# EAGLE library part MT48LC8M16A2P-6A:L (library DLP_TI)
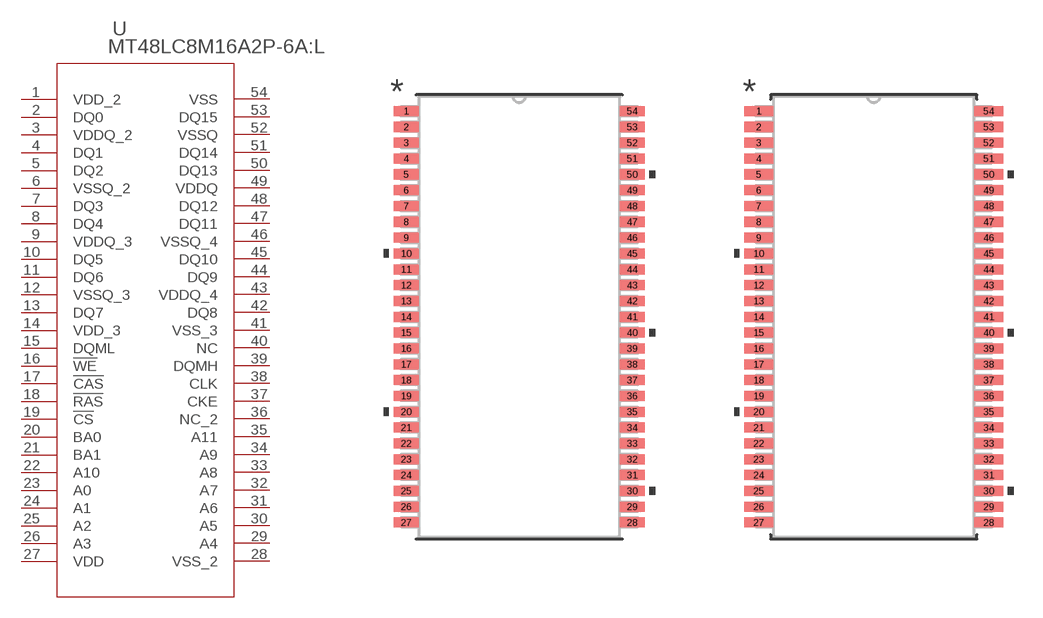
[diagram p3: symbol with the pads of TSOP54_11P76X22P22_MRN; footprints TSOP54_11P76X22P22_MRN, TSOP54_11P76X22P22_MRN-M]

Designator prefix U

## MT48LC8M16A2P-6A:L (COPYRIGHT: Copyright (C) 2021 Ultra Librarian. All rights reserved.; MANUFACTURER_PART_NUMBER: MT48LC8M16A2P-6A:L; MFR_NAME: Micron)  [TSOP54_11P76X22P22_MRN]
1  VDD_2  pwr
2  DQ0
3  VDDQ_2  pwr
4  DQ1
5  DQ2
6  VSSQ_2  pas
7  DQ3
8  DQ4
9  VDDQ_3  pwr
10  DQ5
11  DQ6
12  VSSQ_3  pas
13  DQ7
14  VDD_3  pwr
15  DQML  pas
16  !WE  pas
17  !CAS  pas
18  !RAS  pas
19  !CS  pas
20  BA0
21  BA1
22  A10
23  A0
24  A1
25  A2
26  A3
27  VDD  pwr
28  VSS_2  pas
29  A4
30  A5
31  A6
32  A7
33  A8
34  A9
35  A11
36  NC_2  nc
37  CKE  pas
38  CLK  pas
39  DQMH  pas
40  NC  nc
41  VSS_3  pas
42  DQ8
43  VDDQ_4  pwr
44  DQ9
45  DQ10
46  VSSQ_4  pas
47  DQ11
48  DQ12
49  VDDQ  pwr
50  DQ13
51  DQ14
52  VSSQ  pas
53  DQ15
54  VSS  pas

## MT48LC8M16A2P-6A:LTSOP54_11P76X22P22_MRN-M (COPYRIGHT: Copyright (C) 2021 Ultra Librarian. All rights reserved.; MANUFACTURER_PART_NUMBER: MT48LC8M16A2P-6A:L; MFR_NAME: Micron)  [TSOP54_11P76X22P22_MRN-M]
Pads as for TSOP54_11P76X22P22_MRN

## MT48LC8M16A2P-6A:LTSOP54_11P76X22P22_MRN-L (COPYRIGHT: Copyright (C) 2021 Ultra Librarian. All rights reserved.; MANUFACTURER_PART_NUMBER: MT48LC8M16A2P-6A:L; MFR_NAME: Micron)  [TSOP54_11P76X22P22_MRN-L]
Pads as for TSOP54_11P76X22P22_MRN

## Footprint TSOP54_11P76X22P22_MRN (pad centres in mm)
smd 1.257 x 0.508: 1 -5.709,10.4; 2 -5.709,9.6; 3 -5.709,8.8; 4 -5.709,8; 5 -5.709,7.2; 6 -5.709,6.4; 7 -5.709,5.6; 8 -5.709,4.8; 9 -5.709,4; 10 -5.709,3.2; 11 -5.709,2.4; 12 -5.709,1.6; 13 -5.709,0.8; 14 -5.709,0; 15 -5.709,-0.8; 16 -5.709,-1.6; 17 -5.709,-2.4; 18 -5.709,-3.2; 19 -5.709,-4; 20 -5.709,-4.8; 21 -5.709,-5.6; 22 -5.709,-6.4; 23 -5.709,-7.2; 24 -5.709,-8; 25 -5.709,-8.8; 26 -5.709,-9.6; 27 -5.709,-10.4; 28 5.709,-10.4; 29 5.709,-9.6; 30 5.709,-8.8; 31 5.709,-8; 32 5.709,-7.2; 33 5.709,-6.4; 34 5.709,-5.6; 35 5.709,-4.8; 36 5.709,-4; 37 5.709,-3.2; 38 5.709,-2.4; 39 5.709,-1.6; 40 5.709,-0.8; 41 5.709,0; 42 5.709,0.8; 43 5.709,1.6; 44 5.709,2.4; 45 5.709,3.2; 46 5.709,4; 47 5.709,4.8; 48 5.709,5.6; 49 5.709,6.4; 50 5.709,7.2; 51 5.709,8; 52 5.709,8.8; 53 5.709,9.6; 54 5.709,10.4

## Footprint TSOP54_11P76X22P22_MRN-M (pad centres in mm)
smd 1.46 x 0.508: 1 -5.81,10.4; 2 -5.81,9.6; 3 -5.81,8.8; 4 -5.81,8; 5 -5.81,7.2; 6 -5.81,6.4; 7 -5.81,5.6; 8 -5.81,4.8; 9 -5.81,4; 10 -5.81,3.2; 11 -5.81,2.4; 12 -5.81,1.6; 13 -5.81,0.8; 14 -5.81,0; 15 -5.81,-0.8; 16 -5.81,-1.6; 17 -5.81,-2.4; 18 -5.81,-3.2; 19 -5.81,-4; 20 -5.81,-4.8; 21 -5.81,-5.6; 22 -5.81,-6.4; 23 -5.81,-7.2; 24 -5.81,-8; 25 -5.81,-8.8; 26 -5.81,-9.6; 27 -5.81,-10.4; 28 5.81,-10.4; 29 5.81,-9.6; 30 5.81,-8.8; 31 5.81,-8; 32 5.81,-7.2; 33 5.81,-6.4; 34 5.81,-5.6; 35 5.81,-4.8; 36 5.81,-4; 37 5.81,-3.2; 38 5.81,-2.4; 39 5.81,-1.6; 40 5.81,-0.8; 41 5.81,0; 42 5.81,0.8; 43 5.81,1.6; 44 5.81,2.4; 45 5.81,3.2; 46 5.81,4; 47 5.81,4.8; 48 5.81,5.6; 49 5.81,6.4; 50 5.81,7.2; 51 5.81,8; 52 5.81,8.8; 53 5.81,9.6; 54 5.81,10.4

## Footprint TSOP54_11P76X22P22_MRN-L (pad centres in mm)
smd 1.016 x 0.457: 1 -5.626,10.4; 2 -5.626,9.6; 3 -5.626,8.8; 4 -5.626,8; 5 -5.626,7.2; 6 -5.626,6.4; 7 -5.626,5.6; 8 -5.626,4.8; 9 -5.626,4; 10 -5.626,3.2; 11 -5.626,2.4; 12 -5.626,1.6; 13 -5.626,0.8; 14 -5.626,0; 15 -5.626,-0.8; 16 -5.626,-1.6; 17 -5.626,-2.4; 18 -5.626,-3.2; 19 -5.626,-4; 20 -5.626,-4.8; 21 -5.626,-5.6; 22 -5.626,-6.4; 23 -5.626,-7.2; 24 -5.626,-8; 25 -5.626,-8.8; 26 -5.626,-9.6; 27 -5.626,-10.4; 28 5.626,-10.4; 29 5.626,-9.6; 30 5.626,-8.8; 31 5.626,-8; 32 5.626,-7.2; 33 5.626,-6.4; 34 5.626,-5.6; 35 5.626,-4.8; 36 5.626,-4; 37 5.626,-3.2; 38 5.626,-2.4; 39 5.626,-1.6; 40 5.626,-0.8; 41 5.626,0; 42 5.626,0.8; 43 5.626,1.6; 44 5.626,2.4; 45 5.626,3.2; 46 5.626,4; 47 5.626,4.8; 48 5.626,5.6; 49 5.626,6.4; 50 5.626,7.2; 51 5.626,8; 52 5.626,8.8; 53 5.626,9.6; 54 5.626,10.4